# Altium schematic symbol library SCH - OPAMP - ANALOG DEV AD8418WBRZ.SCHLIB: 1 symbol
Pins are listed as number, name and electrical type; pins without a type are passive.

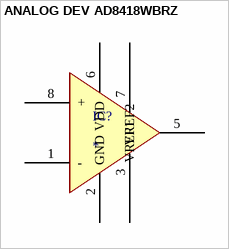
[diagram p0: symbol ANALOG DEV AD8418WBRZ]

## ANALOG DEV AD8418WBRZ
designator IC?
pins: 1 -, 2 GND, 3 VREF2, 5 OUT, 6 VDD, 7 VREF1, 8 +